# EAGLE library part SI8405 (library Bus-isolators)
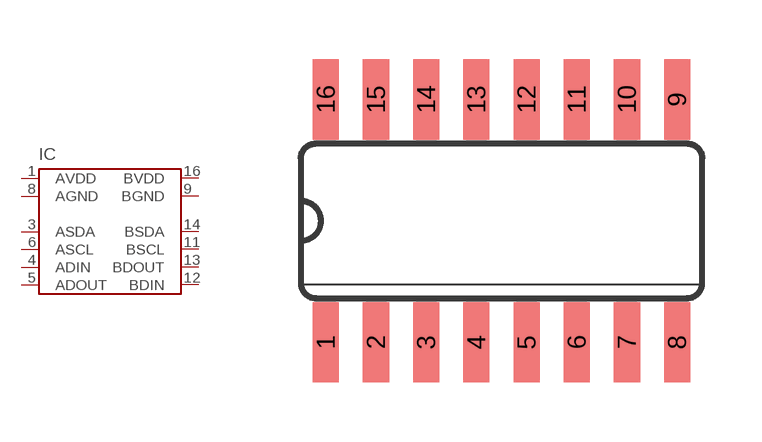
[diagram p4: symbol with the pads of SO16; footprint SO16]

Designator prefix IC

## SI8405  [SO16]
1  AVDD  pwr
3  ASDA
4  ADIN  in
5  ADOUT  out
6  ASCL
8  AGND  pwr
9  BGND  pwr
11  BSCL
12  BDIN  in
13  BDOUT  out
14  BSDA
16  BVDD  pwr

## Footprint SO16 (pad centres in mm)
Small Outline Package
smd 0.66 x 2.032: 1 -4.445,-3.073; 2 -3.175,-3.073; 3 -1.905,-3.073; 4 -0.635,-3.073; 5 0.635,-3.073; 6 1.905,-3.073; 7 3.175,-3.073; 8 4.445,-3.073; 9 4.445,3.073; 10 3.175,3.073; 11 1.905,3.073; 12 0.635,3.073; 13 -0.635,3.073; 14 -1.905,3.073; 15 -3.175,3.073; 16 -4.445,3.073